# Altium schematic symbol library switchcard.SchLib: 3 symbols
Pins are listed as number, name and electrical type; pins without a type are passive.

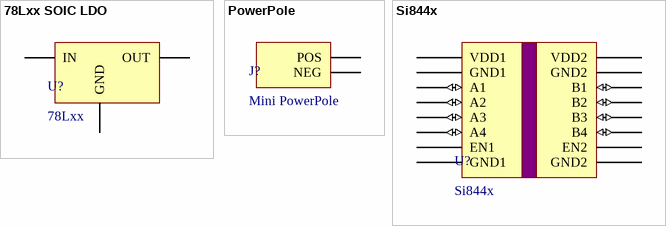
[diagram p0: symbols 78Lxx SOIC LDO to Si844x]

## 78Lxx SOIC LDO
designator U?, comment 78Lxx
pins: COMMON GND (power), INPUT IN (power), OUTPUT OUT (power)

## PowerPole
designator J?, comment Mini PowerPole
footprint POWERPOLE25A-2
pins: NEG (power), POS (power)

## Si844x
designator U?
Si844x High Speed Digital Isolator
footprint SO16 (Wide)
pins: 1 VDD1, 2 GND1, 3 A1 (io), 4 A2 (io), 5 A3 (io), 6 A4 (io), 7 EN1, 8 GND1, 9 GND2, 10 EN2, 11 B4 (io), 12 B3 (io), 13 B2 (io), 14 B1 (io), 15 GND2, 16 VDD2